# EAGLE library part AP3031KTR-G1 (library Lighting IC)
AP3031 step-up LED driver chip for LEDs up to 1.4A
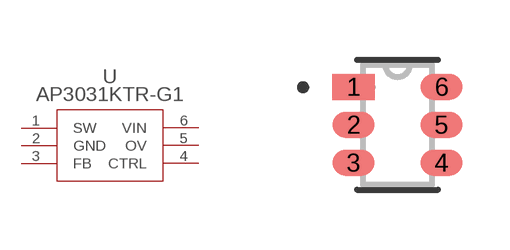
[diagram p0: symbol with the pads of SOT23-6; footprint SOT23-6]

Designator prefix U

## AP3031KTR-G1 (MANUFACTURER_PART_NUMBER: AP3031KTRG1; VENDOR: Diodes Inc)  [SOT23-6]
1  SW  out
2  GND  pwr
3  FB  out
4  CTRL  pas
5  OV  pas
6  VIN  in

## Footprint SOT23-6 (pad centres in mm)
smd 1.06 x 0.65: 1 -1.1,0.95; 2 -1.1,0; 3 -1.1,-0.95; 4 1.1,-0.95; 5 1.1,0; 6 1.1,0.95